# Altium footprint library XR-2206.PcbLib: 3 footprints
Each footprint in its own frame and in the unit in brackets; x right, y up, seen from the top. Pads: shape width x height; smd on the part's side, far side on the other; paste and mask are expansions set on the pad; w line width, h text height; cw(c..) or ccw(c..) is an arc to the next point about the centre after c.
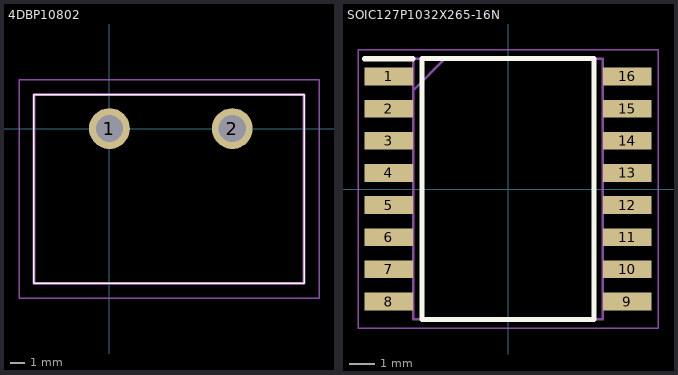
[diagram p0: the footprints below, top view; thin cyan lines are the x and y axes]

## 4DBP10802 [mm]
pads (2):
  round 2.744 hole 1.829: 1(0,0) 2(8.255,0)
Top Overlay:
  lines w0.1: -5.08,-10.414 -5.08,2.286 13.081,2.286 13.081,-10.414 -5.08,-10.414
Mechanical 13:
  lines w0.2: -5.08,-10.414 -5.08,2.286 13.081,2.286 13.081,-10.414 -5.08,-10.414
Mechanical 15:
  lines w0.1: -6.08,-11.414 -6.08,3.286 14.081,3.286 14.081,-11.414 -6.08,-11.414
3D body "4DB-P108-02.stp": height 14.38, standoff -4.16, extent -5.081,-10.41 13.08,2.29

## PCBComponent_1 [mm]

## SOIC127P1032X265-16N [mm]
pads (16):
  rect 1.925x0.7 smd: 1(-4.712,4.445) 2(-4.712,3.175) 3(-4.712,1.905) 4(-4.712,0.635) 5(-4.712,-0.635) 6(-4.712,-1.905) 7(-4.712,-3.175) 8(-4.712,-4.445) 9(4.712,-4.445) 10(4.712,-3.175) 11(4.712,-1.905) 12(4.712,-0.635) 13(4.712,0.635) 14(4.712,1.905) 15(4.712,3.175) 16(4.712,4.445)
Top Overlay:
  lines w0.2: -5.675,5.145 -3.75,5.145 ; -3.4,-5.15 -3.4,5.15 3.4,5.15 3.4,-5.15 -3.4,-5.15
Mechanical 13:
  lines w0.1: -3.75,3.88 -2.48,5.15 ; -3.75,-5.15 -3.75,5.15 3.75,5.15 3.75,-5.15 -3.75,-5.15
Mechanical 15:
  lines w0.05: -5.925,-5.5 -5.925,5.5 5.925,5.5 5.925,-5.5 -5.925,-5.5
3D body "XR2206D-F.stp": height 2.65, standoff 0, extent -5.162,-5.15 5.162,5.15